# EAGLE library part LOXONE_EXTENSION (library loxone)
Loxone Extension
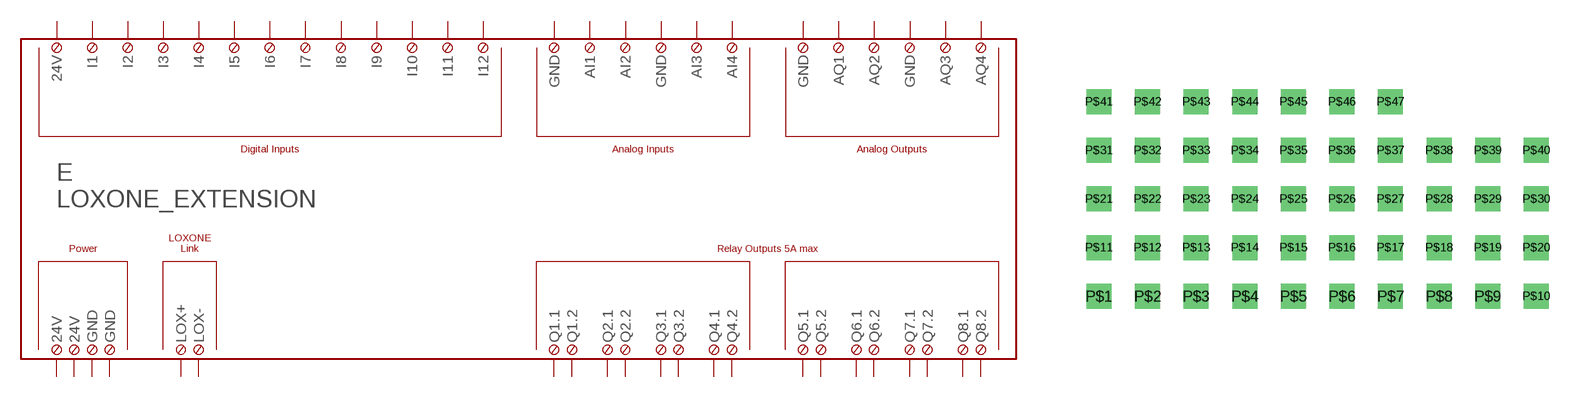
[diagram p2: symbol with the pads of LOXONE_EXTENSION_DUMMY; footprint LOXONE_EXTENSION_DUMMY]

Designator prefix E

## LOXONE_EXTENSION  [LOXONE_EXTENSION_DUMMY]
P$1  24V.1  pas
P$2  24V.2  pas
P$3  24V.3  pas
P$4  AI1  pas
P$5  AI2  pas
P$6  AI3  pas
P$7  AI4  pas
P$8  AQ1  pas
P$9  AQ2  pas
P$10  AQ3  pas
P$11  AQ4  pas
P$12  GND.1  pas
P$13  GND.2  pas
P$14  GND.3  pas
P$15  GND.4  pas
P$16  GND.5  pas
P$17  GND.6  pas
P$18  I1  pas
P$19  I2  pas
P$20  I3  pas
P$21  I4  pas
P$22  I5  pas
P$23  I6  pas
P$24  I7  pas
P$25  I8  pas
P$26  I9  pas
P$27  I10  pas
P$28  I11  pas
P$29  I12  pas
P$30  LOX+  pas
P$31  LOX-  pas
P$32  Q1.1  pas
P$33  Q1.2  pas
P$34  Q2.1  pas
P$35  Q2.2  pas
P$36  Q3.1  pas
P$37  Q3.2  pas
P$38  Q4.1  pas
P$39  Q4.2  pas
P$40  Q5.1  pas
P$41  Q5.2  pas
P$42  Q6.1  pas
P$43  Q6.2  pas
P$44  Q7.1  pas
P$45  Q7.2  pas
P$46  Q8.1  pas
P$47  Q8.2  pas

## Footprint LOXONE_EXTENSION_DUMMY (pad centres in mm)
drill 0.8 square: P$1 0,0; P$2 2.54,0; P$3 5.08,0; P$4 7.62,0; P$5 10.16,0; P$6 12.7,0; P$7 15.24,0; P$8 17.78,0; P$9 20.32,0; P$10 22.86,0; P$11 0,2.54; P$12 2.54,2.54; P$13 5.08,2.54; P$14 7.62,2.54; P$15 10.16,2.54; P$16 12.7,2.54; P$17 15.24,2.54; P$18 17.78,2.54; P$19 20.32,2.54; P$20 22.86,2.54; P$21 0,5.08; P$22 2.54,5.08; P$23 5.08,5.08; P$24 7.62,5.08; P$25 10.16,5.08; P$26 12.7,5.08; P$27 15.24,5.08; P$28 17.78,5.08; P$29 20.32,5.08; P$30 22.86,5.08; P$31 0,7.62; P$32 2.54,7.62; P$33 5.08,7.62; P$34 7.62,7.62; P$35 10.16,7.62; P$36 12.7,7.62; P$37 15.24,7.62; P$38 17.78,7.62; P$39 20.32,7.62; P$40 22.86,7.62; P$41 0,10.16; P$42 2.54,10.16; P$43 5.08,10.16; P$44 7.62,10.16; P$45 10.16,10.16; P$46 12.7,10.16; P$47 15.24,10.16